# Altium schematic symbol library schematics_library_legacy.schlib: 96 symbols (part 3 of 4)
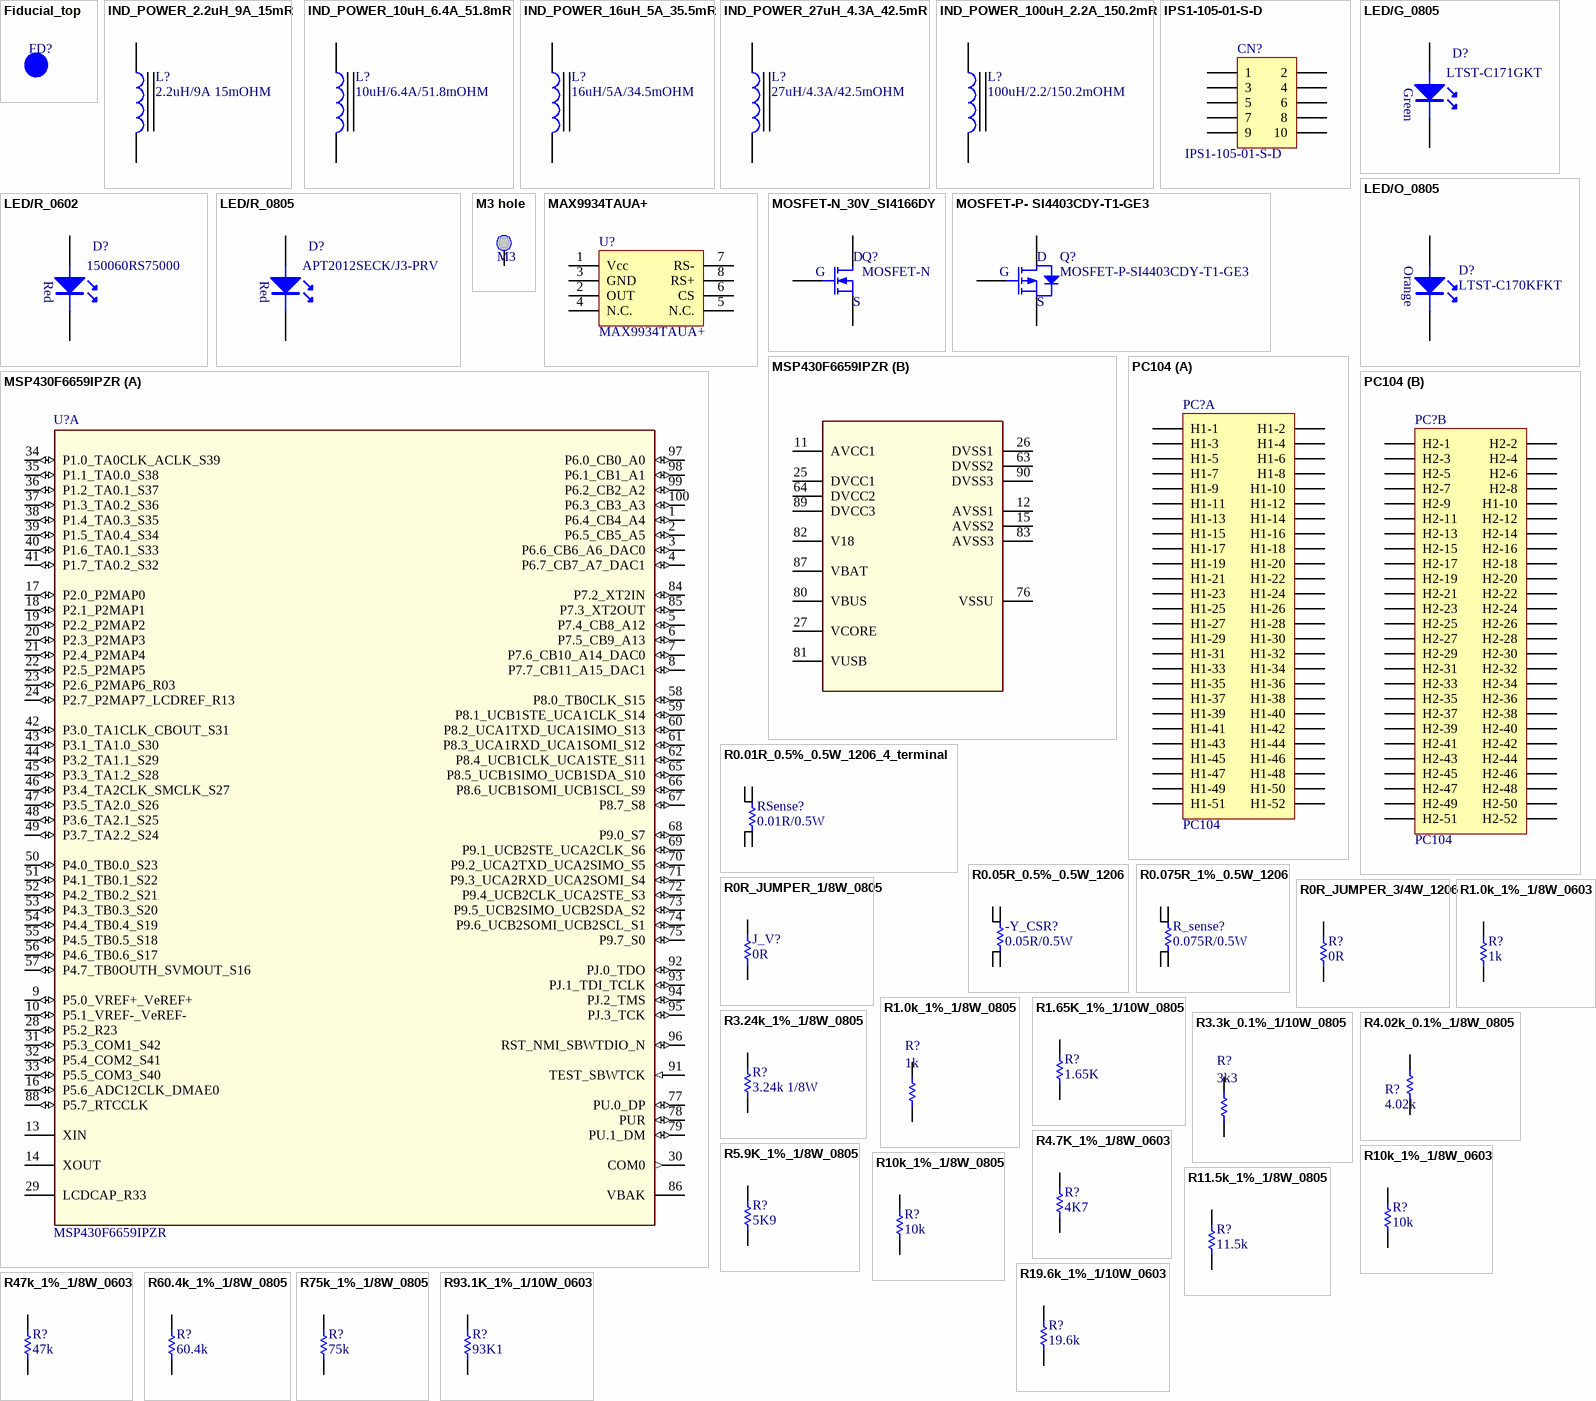
[diagram p4: symbols Fiducial_top to R93.1K_1%_1/10W_0603]

## MSP430F6659IPZR
designator U?
CPUXV2 series Microcontroller IC 16-Bit 20MHz 512KB (512K x 8) FLASH 100-LQFP (14x14); Manufacturer: Texas Instruments; PIN_COUNT: 100; Max Supply Voltage: 3.6V; Min Supply Voltage: 1.8V; Number of I/Os: 74; Interface: SPI,USB,UART,I2C,IrDA,USART,SCI; RAM Size: 66KB; Number of Timers/Counters: 4; Data Bus Width: 16b; Oscillator Type: Internal; Watchdog Timer: Yes; Number of UART Channels: 3; Number of A/D Converters: 16; Peripherals: Brown-out Detect/Reset,POR,PWM,WDT,DMA,LCD; Application_BuildNumber: *; PartNumber: MSP430F6659IPZR; Alternate PartNumber: MSP430F6659IPZ; PackageReference: PZ0100A; MountType: SMT; CompType: IC; RoHS: Y; RefDes: RefDes; Type: DEV; Value: Value; Supplier 1: Mouser; Supplier Part Number 1: 595-MSP430F6659IPZ; Stock 1: 288; Pricing 1: 1=13.59, 10=12.49, 25=11.97, 100=10.55, 250=10.03, 500=9.39 (USD); Mount: Surface Mount; Case/Package: LQFP; Number of Pins: 100; Min Operating Temperature: -40°C; Max Operating Temperature: 85°C; Package Quantity: 90; Frequency: 20MHz; Packaging: Tray; Number of Programmable I/O: 74; Max Frequency: 20MHz; Memory Type: FLASH; Memory Size: 512KB; Core Architecture: CPUXV2; Lead Free: Lead Free; REACH SVHC: No SVHC; ComponentLink1URL: http://www.ti.com/general/docs/lit/getliterature.tsp?genericPartNumber=MSP430F6659&&fileType=pdf&src-supplier=Element14; ComponentLink1Description: http://www.ti.com/general/docs/lit/getliterature.tsp?genericPartNumber=MSP430F6659&&fileType=pdf&src-supplier=Element14; Supplier 2: Digi-Key; Supplier Part Number 2: 296-41521-ND; Stock 2: 457; Pricing 2: 1=13.59, 10=12.487, 25=11.9696, 100=10.5461, 250=10.02852, 500=9.3815, 1000=8.6051, 2500=8.2816, 5000=8.0228 (USD); Manufacturer Part Number: MSP430F6659IPZ
footprint LQFP-100
part A pins: 1 P6.4_CB4_A4 (io), 2 P6.5_CB5_A5 (io), 3 P6.6_CB6_A6_DAC0 (io), 4 P6.7_CB7_A7_DAC1 (io), 5 P7.4_CB8_A12 (io), 6 P7.5_CB9_A13 (io), 7 P7.6_CB10_A14_DAC0 (io), 8 P7.7_CB11_A15_DAC1 (io), 9 P5.0_VREF+_VeREF+ (io), 10 P5.1_VREF-_VeREF- (io), 13 XIN, 14 XOUT, 16 P5.6_ADC12CLK_DMAE0 (io), 17 P2.0_P2MAP0 (io), 18 P2.1_P2MAP1 (io), 19 P2.2_P2MAP2 (io), 20 P2.3_P2MAP3 (io), 21 P2.4_P2MAP4 (io), 22 P2.5_P2MAP5 (io), 23 P2.6_P2MAP6_R03 (io), 24 P2.7_P2MAP7_LCDREF_R13 (io), 28 P5.2_R23 (io), 29 LCDCAP_R33, 30 COM0 (out), 31 P5.3_COM1_S42 (io), 32 P5.4_COM2_S41 (io), 33 P5.5_COM3_S40 (io), 34 P1.0_TA0CLK_ACLK_S39 (io), 35 P1.1_TA0.0_S38 (io), 36 P1.2_TA0.1_S37 (io), 37 P1.3_TA0.2_S36 (io), 38 P1.4_TA0.3_S35 (io), 39 P1.5_TA0.4_S34 (io), 40 P1.6_TA0.1_S33 (io), 41 P1.7_TA0.2_S32 (io), 42 P3.0_TA1CLK_CBOUT_S31 (io), 43 P3.1_TA1.0_S30 (io), 44 P3.2_TA1.1_S29 (io), 45 P3.3_TA1.2_S28 (io), 46 P3.4_TA2CLK_SMCLK_S27 (io), 47 P3.5_TA2.0_S26 (io), 48 P3.6_TA2.1_S25 (io), 49 P3.7_TA2.2_S24 (io), 50 P4.0_TB0.0_S23 (io), 51 P4.1_TB0.1_S22 (io), 52 P4.2_TB0.2_S21 (io), 53 P4.3_TB0.3_S20 (io), 54 P4.4_TB0.4_S19 (io), 55 P4.5_TB0.5_S18 (io), 56 P4.6_TB0.6_S17 (io), 57 P4.7_TB0OUTH_SVMOUT_S16 (io), 58 P8.0_TB0CLK_S15 (io), 59 P8.1_UCB1STE_UCA1CLK_S14 (io), 60 P8.2_UCA1TXD_UCA1SIMO_S13 (io), 61 P8.3_UCA1RXD_UCA1SOMI_S12 (io), 62 P8.4_UCB1CLK_UCA1STE_S11 (io), 65 P8.5_UCB1SIMO_UCB1SDA_S10 (io), 66 P8.6_UCB1SOMI_UCB1SCL_S9 (io), 67 P8.7_S8 (io), 68 P9.0_S7 (io), 69 P9.1_UCB2STE_UCA2CLK_S6 (io), 70 P9.2_UCA2TXD_UCA2SIMO_S5 (io), 71 P9.3_UCA2RXD_UCA2SOMI_S4 (io), 72 P9.4_UCB2CLK_UCA2STE_S3 (io), 73 P9.5_UCB2SIMO_UCB2SDA_S2 (io), 74 P9.6_UCB2SOMI_UCB2SCL_S1 (io), 75 P9.7_S0 (io), 77 PU.0_DP (io), 78 PUR (io), 79 PU.1_DM (io), 84 P7.2_XT2IN (io), 85 P7.3_XT2OUT (io), 86 VBAK, 88 P5.7_RTCCLK (io), 91 TEST_SBWTCK (in), 92 PJ.0_TDO (io), 93 PJ.1_TDI_TCLK (io), 94 PJ.2_TMS (io), 95 PJ.3_TCK (io), 96 RST_NMI_SBWTDIO_N (io), 97 P6.0_CB0_A0 (io), 98 P6.1_CB1_A1 (io), 99 P6.2_CB2_A2 (io), 100 P6.3_CB3_A3 (io)
part B pins: 11 AVCC1 (power), 12 AVSS1 (power), 15 AVSS2 (power), 25 DVCC1 (power), 26 DVSS1 (power), 27 VCORE (power), 63 DVSS2 (power), 64 DVCC2 (power), 76 VSSU (power), 80 VBUS (power), 81 VUSB (power), 82 V18 (power), 83 AVSS3 (power), 87 VBAT (power), 89 DVCC3 (power), 90 DVSS3 (power)

## PC104
designator PC?
Partnumber: SSW-126-01-G-D; Manufacturer: Samtec; Gender: Receptacle; Number of Contacts: 52; Connector Type: Receptacle,Socket; Mating Cycles: 100; Max Current Rating: 5.5A; Contact Resistance: 10mR; Max Voltage Rating (AC): 550V; Pitch: 2.54mm; Row Spacing: 0.1inch; Supplier 1: Mouser; Supplier Part Number 1: 200-SSW12601GD; Stock 1: 86; Pricing 1: 1=6.95, 10=5.8, 100=4.93, 250=4.4, 500=4.05, 1000=3.8 (USD); Mount: Through Hole; Contact Plating: Gold; Contact Material: Bronze; Color: Black; Housing Color: Black; Housing Material: Polymer; Min Operating Temperature: -55°C; Max Operating Temperature: 125°C; Number of Rows: 2; Termination: Solder; Packaging: Bulk; Number of Positions: 52; Orientation: Straight; Length: 66.55mm; Width: 4.95mm; Depth: 4.95mm; Lead Free: Lead Free; REACH SVHC: No SVHC; ComponentLink1URL: http://suddendocs.samtec.com/prints/ssw-1xx-xx-xxx-x-xx-xxx-xx-mkt.pdf?src-supplier=Digi-Key; ComponentLink1Description: http://suddendocs.samtec.com/prints/ssw-1xx-xx-xxx-x-xx-xxx-xx-mkt.pdf?src-supplier=Digi-Key; Supplier 2: Digi-Key; Supplier Part Number 2: SAM1208-26-ND; Stock 2: 0; Pricing 2: 1=6.69, 10=6.415, 25=5.8576, 50=5.5786, 100=5.2996, 250=4.74176, 500=4.46284 (USD); Manufacturer Part Number: SSW-126-01-G-D
footprint PC104_EPS (Connector; Header; 26x4 Position)
part A pins: H1-1, H1-2, H1-3, H1-4, H1-5, H1-6, H1-7, H1-8, H1-9, H1-10, H1-11, H1-12, H1-13, H1-14, H1-15, H1-16, H1-17, H1-18, H1-19, H1-20, H1-21, H1-22, H1-23, H1-24, H1-25, H1-26, H1-27, H1-28, H1-29, H1-30, H1-31, H1-32, H1-33, H1-34, H1-35, H1-36, H1-37, H1-38, H1-39, H1-40, H1-41, H1-42, H1-43, H1-44, H1-45, H1-46, H1-47, H1-48, H1-49, H1-50, H1-51, H1-52
part B pins: H1-10, H1-32 H2-32, H1-52 H2-52, H2-1, H2-2, H2-3, H2-4, H2-5, H2-6, H2-7, H2-8, H2-9, H2-11, H2-12, H2-13, H2-14, H2-15, H2-16, H2-17, H2-18, H2-19, H2-20, H2-21, H2-22, H2-23, H2-24, H2-25, H2-26, H2-27, H2-28, H2-29, H2-30, H2-31, H2-33, H2-34, H2-35, H2-36, H2-37, H2-38, H2-39, H2-40, H2-41, H2-42, H2-43, H2-44, H2-45, H2-46, H2-47, H2-48, H2-49, H2-50, H2-51

## R0.01R_0.5%_0.5W_1206_4_terminal
designator RSense?, comment 0.01R/0.5W
Current Sense Resistors - SMD 0.01ohm .5% 4 Terminal; Partnumber: LVK12R010DER; Manufacturer: Ohmite; Resistance: 10mR; Power Rating: 500mW; Tolerance: 0.5%; Temperature Coefficient: 50ppm/°C; NCM: 8533.21.20; Supplier 1: Mouser; Supplier Part Number 1: 588-LVK12R010DER; Stock 1: 41390; Pricing 1: 1=0.89, 10=0.784, 25=0.721, 50=0.657, 100=0.569, 250=0.48 (USD); Mount: Surface Mount; Case/Package: 1206; Weight: 0.000571oz; Case Code (Imperial): 1206; Case Code (Metric): 3216; Min Operating Temperature: -40°C; Max Operating Temperature: 125°C; Packaging: Tape and Reel; Package Quantity: 1; Composition: Thick Film,Metal Film,Thin Film; Termination: SMD/SMT; Number of Terminations: 4; Max Power Dissipation: 500mW; Features: Moisture Resistant; Length: 3.2mm; Height: 0.5mm; Width: 1.6mm; Depth: 1.6mm; REACH SVHC: Unknown; ComponentLink1URL: http://www.mouser.com/ds/2/303/res_lvk-526397.pdf?src-supplier=Mouser; ComponentLink1Description: http://www.mouser.com/ds/2/303/res_lvk-526397.pdf?src-supplier=Mouser; ComponentLink2URL: http://www.ohmite.com/assets/docs/res_lvk.pdf?r=false&src-supplier=Digi-Key; ComponentLink2Description: http://www.ohmite.com/assets/docs/res_lvk.pdf?r=false&src-supplier=Digi-Key; ComponentLink3URL: http://www.farnell.com/datasheets/2553343.pdf?src-supplier=Element14; ComponentLink3Description: http://www.farnell.com/datasheets/2553343.pdf?src-supplier=Element14; ComponentLink4URL: http://www.farnell.com/datasheets/1928848.pdf?src-supplier=Element14; ComponentLink4Description: http://www.farnell.com/datasheets/1928848.pdf?src-supplier=Element14; ComponentLink5URL: https://www.alliedelec.com/m/d/8bcba2f42146915c5c22f667886779d2.pdf?src-supplier=Allied+Electronics; ComponentLink5Description: https://www.alliedelec.com/m/d/8bcba2f42146915c5c22f667886779d2.pdf?src-supplier=Allied+Electronics; Supplier 2: Digi-Key; Supplier Part Number 2: LVK12R010DERCT-ND; Stock 2: 186044; Pricing 2: 1=0.89, 10=0.784, 25=0.7212, 50=0.6578, 100=0.5693, 250=0.48072, 500=0.4048, 1000=0.34408 (USD); Manufacturer Part Number: LVK12R010DER
footprint 1206 - ohmite
pins: 1, 2, 3, 4

## R0.05R_0.5%_0.5W_1206
designator -Y_CSR?, comment 0.05R/0.5W
Current Sense Resistors - SMD 0.05ohm .5% 4 Terminal; Partnumber: LVK12R050DER; Manufacturer: Ohmite; Resistance: 50mR; Power Rating: 500mW; Tolerance: 0.5%; Temperature Coefficient: 50ppm/°C; NCM: 8533.21.20; Supplier 1: Mouser; Supplier Part Number 1: 588-LVK12R050DER; Stock 1: 13324; Pricing 1: 1=0.85, 10=0.784, 25=0.604, 100=0.531, 250=0.46, 500=0.385 (USD); Mount: Surface Mount; Case/Package: 1206; Case Code (Metric): 3216; Case Code (Imperial): 1206; Min Operating Temperature: -40°C; Max Operating Temperature: 125°C; Packaging: Tape and Reel; Package Quantity: 1; Composition: Thick Film,Metal Film,Thin Film; Number of Terminations: 4; Termination: SMD/SMT; Max Power Dissipation: 500mW; Features: Moisture Resistant; Length: 3.2mm; Height: 0.5mm; Width: 0.063inch; Depth: 1.6mm; REACH SVHC: Unknown; ComponentLink1URL: http://www.ohmite.com/assets/docs/res_lvk.pdf?r=false&src-supplier=Digi-Key; ComponentLink1Description: http://www.ohmite.com/assets/docs/res_lvk.pdf?r=false&src-supplier=Digi-Key; ComponentLink2URL: http://www.farnell.com/datasheets/2553343.pdf?src-supplier=Element14; ComponentLink2Description: http://www.farnell.com/datasheets/2553343.pdf?src-supplier=Element14; ComponentLink3URL: http://www.ohmite.com/catalog/pdf/lvk.pdf?src-supplier=Element14; ComponentLink3Description: http://www.ohmite.com/catalog/pdf/lvk.pdf?src-supplier=Element14; ComponentLink4URL: https://www.alliedelec.com/m/d/8bcba2f42146915c5c22f667886779d2.pdf?src-supplier=Allied+Electronics; ComponentLink4Description: https://www.alliedelec.com/m/d/8bcba2f42146915c5c22f667886779d2.pdf?src-supplier=Allied+Electronics; Supplier 2: Digi-Key; Supplier Part Number 2: LVK12R050DERCT-ND; Stock 2: 3607; Pricing 2: 1=0.89, 10=0.784, 25=0.7212, 50=0.6578, 100=0.5693, 250=0.48072, 500=0.4048, 1000=0.34408 (USD); Manufacturer Part Number: LVK12R050DER
footprint 1206 - ohmite
pins: 1, 2, 3, 4

## R0.075R_1%_0.5W_1206
designator R_sense?, comment 0.075R/0.5W
Current Sense Resistors - SMD 1/2W 0.075 OHMS 1% 4 Terminal; Partnumber: LVK12R075FER; Manufacturer: Ohmite; Resistance: 75mR; Max Power Dissipation: 500mW; Temperature Coefficient: 50ppm/°C; NCM: 8533.21.20; Supplier 1: Mouser; Supplier Part Number 1: 588-LVK12R075FER; Stock 1: 1880; Pricing 1: 1=0.7, 10=0.608, 25=0.488, 100=0.422, 250=0.41, 500=0.409 (USD); Case/Package: 1206; Case Code (Metric): 3216; Case Code (Imperial): 1206; Min Operating Temperature: -40°C; Max Operating Temperature: 125°C; Packaging: Tape and Reel; Composition: Thick Film; Number of Terminations: 4; Tolerance: 1%; Features: Moisture Resistant; Length: 0.126inch; Height: 0.026inch; Width: 0.063inch; ComponentLink1URL: http://www.mouser.com/ds/2/303/res_lvk-526397.pdf?src-supplier=Mouser; ComponentLink1Description: http://www.mouser.com/ds/2/303/res_lvk-526397.pdf?src-supplier=Mouser; ComponentLink2URL: http://www.alliedelec.com/images/products/datasheets/bm/OHMITE/70585002.pdf?src-supplier=Allied+Electronics; ComponentLink2Description: http://www.alliedelec.com/images/products/datasheets/bm/OHMITE/70585002.pdf?src-supplier=Allied+Electronics; ComponentLink3URL: http://www.ohmite.com/cat/res_lvk.pdf?src-supplier=Digi-Key; ComponentLink3Description: http://www.ohmite.com/cat/res_lvk.pdf?src-supplier=Digi-Key; Supplier 2: Digi-Key; Supplier Part Number 2: LVK12R075FERCT-ND; Stock 2: 16; Pricing 2: 1=0.92, 10=0.8 (USD); Manufacturer Part Number: LVK12R075FER
footprint 1206 - ohmite
pins: 1, 2, 3, 4

## R0R_JUMPER_1/8W_0805
designator J_V?, comment 0R
RES 0R OHM 1/8W JUMPER 0805; Partnumber: CRCW08050000Z0EA; Manufacturer: Vishay; Resistance: 0mR; Power Rating: 125mW; Voltage Rating: 150V; Tolerance: 1%; Temperature Coefficient: 100ppm/°C; Fitted: No (jumper resistor); Supplier 1: Mouser; Supplier Part Number 1: 71-CRCW0805-0-E3; Stock 1: 903478; Pricing 1: 1=0.1, 10=0.024, 100=0.01, 1000=0.007, 5000=0.004, 10000=0.004 (USD); Case/Package: 0805; Weight: 0.000194oz; Contact Plating: Tin,Lead; Case Code (Imperial): 0805; Case Code (Metric): 2012; Min Operating Temperature: -55°C; Max Operating Temperature: 155°C; Composition: Thick Film; Termination: SMD/SMT; Packaging: Tape and Reel; Package Quantity: 1; Number of Terminations: 2; Military Standard: Not; Max Power Dissipation: 125mW; Voltage Rating (DC): 150V; Features: Automotive AEC-Q200; Length: 2mm; Height: 0.45mm; Width: 1.25mm; Depth: 1.25mm; Radiation Hardening: No; Lead Free: Lead Free; REACH SVHC: Unknown; ComponentLink1URL: http://www.vishay.com/docs/20035/dcrcwe3.pdf?src-supplier=Avnet+Europe; ComponentLink1Description: http://www.vishay.com/docs/20035/dcrcwe3.pdf?src-supplier=Avnet+Europe; ComponentLink2URL: http://www.vishay.com/docs/20035/dcrcwe3.pdf?src-supplier=Distrelec; ComponentLink2Description: http://www.vishay.com/docs/20035/dcrcwe3.pdf?src-supplier=Distrelec; ComponentLink3URL: http://www.vishay.com/docs/20035/dcrcwe3.pdf?src-supplier=Mouser; ComponentLink3Description: http://www.vishay.com/docs/20035/dcrcwe3.pdf?src-supplier=Mouser; ComponentLink4URL: http://uk.rs-online.com/webdocs/0d98/0900766b80d98b26.pdf?src-supplier=RSComponents; ComponentLink4Description: http://uk.rs-online.com/webdocs/0d98/0900766b80d98b26.pdf?src-supplier=RSComponents; ComponentLink5URL: http://www.vishay.com/docs/20035/dcrcwe3.pdf?src-supplier=Future+Electronics; ComponentLink5Description: http://www.vishay.com/docs/20035/dcrcwe3.pdf?src-supplier=Future+Electronics; ComponentLink6URL: http://www.vishay.com/docs/20035/dcrcwe3.pdf?src-supplier=Allied+Electronics; ComponentLink6Description: http://www.vishay.com/docs/20035/dcrcwe3.pdf?src-supplier=Allied+Electronics; ComponentLink7URL: http://www.vishay.com/docs/20035/dcrcwe3.pdf?src-supplier=Digi-Key; ComponentLink7Description: http://www.vishay.com/docs/20035/dcrcwe3.pdf?src-supplier=Digi-Key; ComponentLink8URL: http://www.farnell.com/datasheets/2310790.pdf?src-supplier=Element14; ComponentLink8Description: http://www.farnell.com/datasheets/2310790.pdf?src-supplier=Element14; Supplier 2: Digi-Key; Supplier Part Number 2: 541-0.0ADKR-ND; Stock 2: 399530; Pricing 2: 1=0.1, 10=0.04, 25=0.0288, 50=0.022, 100=0.0162, 250=0.01236, 500=0.0099, 1000=0.00729 (USD); Manufacturer Part Number: CRCW08050000Z0EA
footprint R0805
pins: 1, 2

## R0R_JUMPER_3/4W_1206
designator R?, comment 0R
RES 0.0 OHM 3/4W JUMP 1206; Partnumber: HCJ1206ZT0R00; Manufacturer: Stackpole Electronics; Resistance: 0mR; Fitted: No (jumper resistor); Supplier 1: Digi-Key; Supplier Part Number 1: HCJ1206ZT0R00CT-ND; Stock 1: 1958428; Pricing 1: 1=0.5, 10=0.358, 25=0.2788, 50=0.236, 100=0.1859, 250=0.15732, 500=0.1287, 1000=0.1001 (USD); Mount: Surface Mount; Case/Package: 1206; Case Code (Metric): 3216; Case Code (Imperial): 1206; Min Operating Temperature: -55°C; Max Operating Temperature: 155°C; Package Quantity: 5000; Packaging: Tape and Reel; Number of Terminations: 2; Termination: Wraparound; Features: Automotive AEC-Q200; Length: 0.122inch; Height: 0.026inch; Width: 0.061inch; Radiation Hardening: No; ComponentLink1URL: http://www.seielect.com/Catalog/SEI-HCJ.pdf?src-supplier=Avnet; ComponentLink1Description: http://www.seielect.com/Catalog/SEI-HCJ.pdf?src-supplier=Avnet; ComponentLink2URL: https://www.seielect.com/Catalog/SEI-HCJ.pdf?src-supplier=Avnet+Asia; ComponentLink2Description: https://www.seielect.com/Catalog/SEI-HCJ.pdf?src-supplier=Avnet+Asia; ComponentLink3URL: https://www.seielect.com/catalog/SEI-HCJ.pdf?src-supplier=Digi-Key; ComponentLink3Description: https://www.seielect.com/catalog/SEI-HCJ.pdf?src-supplier=Digi-Key; ComponentLink4URL: https://www.seielect.com/catalog/SEI-Packaging.pdf?src-supplier=Digi-Key; ComponentLink4Description: https://www.seielect.com/catalog/SEI-Packaging.pdf?src-supplier=Digi-Key; Manufacturer Part Number: HCJ1206ZT0R00
footprint 1206 - ohmite
pins: 1, 2

## R1.0k_1%_1/8W_0603
designator R?, comment 1k
RES 1.0K OHM 1/8W 1% 0603; Partnumber: MCT06030C1001FP500; Manufacturer: Vishay; Resistance: 1kR; Temperature Coefficient: 50ppm/°C; Power Rating: 100mW; Voltage Rating: 75V; Max Power Dissipation: 125mW; NCM: 8533.21.20; Supplier 1: Mouser; Supplier Part Number 1: 594-MCT06030C1001FP5; Stock 1: 142157; Pricing 1: 1=0.1, 1000=0.025, 2000=0.023, 5000=0.019, 10000=0.018, 20000=0.017 (USD); Mount: Surface Mount; Case/Package: 0603; Weight: 7.1E-05oz; Contact Plating: Tin; Case Code (Metric): 1608; Case Code (Imperial): 0603; Min Operating Temperature: -55°C; Max Operating Temperature: 125°C; Tolerance: 1%; Composition: Thin Film; Package Quantity: 1; Packaging: Tape and Reel; Number of Terminations: 2; Termination: SMD/SMT; Military Standard: Not; Voltage Rating (DC): 75V; Length: 1.55mm; Height: 0.022inch; Width: 0.033inch; Depth: 0.85mm; Radiation Hardening: No; REACH SVHC: Unknown; Lead Free: Lead Free; ComponentLink1URL: http://www.vishay.com/docs/28705/mcx0x0xpro.pdf?src-supplier=Digi-Key; ComponentLink1Description: http://www.vishay.com/docs/28705/mcx0x0xpro.pdf?src-supplier=Digi-Key; ComponentLink2URL: http://www.vishay.com/docs/28705/mc_pro.pdf?src-supplier=Avnet+Europe; ComponentLink2Description: http://www.vishay.com/docs/28705/mc_pro.pdf?src-supplier=Avnet+Europe; ComponentLink3URL: http://www.vishay.com/docs/28705/mc_pro.pdf?src-supplier=Avnet; ComponentLink3Description: http://www.vishay.com/docs/28705/mc_pro.pdf?src-supplier=Avnet; ComponentLink4URL: http://www.vishay.com/docs/28705/mc_pro.pdf?src-supplier=Future+Electronics; ComponentLink4Description: http://www.vishay.com/docs/28705/mc_pro.pdf?src-supplier=Future+Electronics; Supplier 2: Digi-Key; Supplier Part Number 2: MCT0603-1.00K-CFCT-ND; Stock 2: 268907; Pricing 2: 1=0.17, 10=0.145, 100=0.0568, 1000=0.02376, 2500=0.02178 (USD); Manufacturer Part Number: MCT06030C1001FP500
footprint R0603
pins: 1, 2

## R1.0k_1%_1/8W_0805
designator R?, comment 1k
RES SMD 1K OHM 1% 1/8W 0805; Manufacturer: Panasonic; Manufacturer Part Number: ERJ-6ENF1001V; Resistance: 1kR; Temperature Coefficient: 100ppm/°C; Power Rating: 125mW; Voltage Rating (DC): 150V; Supplier 1: Mouser; Supplier Part Number 1: 667-ERJ-6ENF1001V; Stock 1: 604781; Pricing 1: 1=0.13, 10=0.072, 100=0.028, 1000=0.019, 5000=0.018, 10000=0.018 (USD); Mount: Surface Mount; Case/Package: 0805; Number of Pins: 2; Min Operating Temperature: -55°C; Max Operating Temperature: 155°C; Tolerance: 1%; Packaging: Cut Tape; Number of Terminations: 2; Working Voltage: 150V; Length: 2mm; Height: 0.6mm; Depth: 1.25mm; Width: 1.25mm; REACH SVHC: No SVHC; Lead Free: Lead Free; Supplier 2: Digi-Key; Supplier Part Number 2: P1.00KCCT-ND; Stock 2: 447460; Pricing 2: 1=0.1, 10=0.072, 100=0.0275, 1000=0.0121, 2500=0.01045 (USD)
footprint R0805
pins: 1, 2

## R1.65K_1%_1/10W_0805
designator R?, comment 1.65K
RES 1.65K OHM 1/10W 0.1% 0805; Partnumber: PCF0805R-1K65BT1; Manufacturer: TT Welwyn; Resistance: 1.65kR; Power Rating: 100mW; Voltage Rating: 100V; Temperature Coefficient: 25ppm/°C; NCM: 8533.21.20; Supplier 1: Mouser; Supplier Part Number 1: 756-PCF0805R-1K65BT1; Stock 1: 0; Case/Package: 0805; Case Code (Metric): 2012; Case Code (Imperial): 0805; Min Operating Temperature: -55°C; Max Operating Temperature: 125°C; Tolerance: 0.1%; Packaging: Tape and Reel; Package Quantity: 1000; Composition: Metal Film; Number of Terminations: 2; Military Standard: Not; Max Power Dissipation: 100mW; Length: 2mm; Height: 0.026inch; Width: 0.049inch; Depth: 1.25mm; ComponentLink1URL: http://www.ttelectronicsresistors.com/datasheets/pcf.pdf?src-supplier=Digi-Key; ComponentLink1Description: http://www.ttelectronicsresistors.com/datasheets/pcf.pdf?src-supplier=Digi-Key; ComponentLink2URL: http://www.mouser.com/ds/2/414/PCF-437472.pdf?src-supplier=Mouser; ComponentLink2Description: http://www.mouser.com/ds/2/414/PCF-437472.pdf?src-supplier=Mouser; Supplier 2: Digi-Key; Supplier Part Number 2: 985-1304-1-ND; Stock 2: 42; Pricing 2: 1=0.61, 10=0.471, 25=0.358 (USD); Manufacturer Part Number: PCF0805R-1K65BT1
footprint R0805
pins: 1, 2

## R3.3k_0.1%_1/10W_0805
designator R?, comment 3k3
RES SMD 3.3K OHM 0.1% 1/10W 0805; Manufacturer: TE Connectivity Neohm; Manufacturer Part Number: CPF0805B3K3E1; Resistance: 3.3kR; Temperature Coefficient: 25ppm/°C; Voltage Rating: 100V; Power Rating: 100mW; Voltage Rating (DC): 200V; Number of Resistors: 1; Supplier 1: Mouser; Supplier Part Number 1: 279-CPF0805B3K3E1; Stock 1: 1306; Pricing 1: 1=0.67, 10=0.485, 100=0.252, 1000=0.135, 2000=0.117, 10000=0.114 (USD); Mount: Surface Mount; Case/Package: 0805; Weight: 0.000194oz; Case Code (Metric): 2012; Case Code (Imperial): 0805; Min Operating Temperature: -55°C; Max Operating Temperature: 155°C; Tolerance: 0.1%; Packaging: Tape and Reel; Composition: Thin Film; Package Quantity: 1000; Number of Terminations: 2; Termination: Solder; Length: 2mm; Height: 0.55mm; Width: 1.25mm; REACH SVHC: No SVHC; ELV: Compliant; ComponentLink1URL: http://www.farnell.com/datasheets/1786775.pdf?src-supplier=Element14; ComponentLink1Description: http://www.farnell.com/datasheets/1786775.pdf?src-supplier=Element14; Supplier 2: Digi-Key; Supplier Part Number 2: A102339CT-ND; Stock 2: 1176; Pricing 2: 1=0.65, 10=0.463, 100=0.2408 (USD)
footprint R0805
pins: 1, 2

## R3.24k_1%_1/8W_0805
designator R?, comment 3.24k 1/8W
RES 3.24k OHM 1/8W 1% 0805 SMD; Partnumber: CRCW08053K24FKEA; Manufacturer: Vishay; Resistance: 3.24kR; Temperature Coefficient: 100ppm/°C; Max Power Dissipation: 125mW; Voltage Rating: 150V; NCM: 8533.21.20; Supplier 1: Mouser; Supplier Part Number 1: 71-CRCW0805-3.24K-E3; Stock 1: 17870; Pricing 1: 1=0.1, 10=0.062, 100=0.025, 1000=0.01, 5000=0.007, 10000=0.006 (USD); Case/Package: 0805; Number of Pins: 2; Weight: 0.000194oz; Case Code (Imperial): 0805; Case Code (Metric): 2012; Contact Plating: Tin; Min Operating Temperature: -55°C; Max Operating Temperature: 155°C; Tolerance: 1%; Package Quantity: 10; Packaging: Tape and Reel; Composition: Thick Film; Number of Terminations: 2; Features: Automotive AEC-Q200; Power Rating: 125mW; Military Standard: Not; Termination: Solder; Voltage Rating (DC): 150V; Length: 2mm; Height: 0.02inch; Width: 1.25mm; Depth: 1.25mm; Radiation Hardening: No; Lead Free: Lead Free; REACH SVHC: Unknown; ComponentLink1URL: http://www.vishay.com/docs/20035/dcrcwe3.pdf?src-supplier=Avnet; ComponentLink1Description: http://www.vishay.com/docs/20035/dcrcwe3.pdf?src-supplier=Avnet; ComponentLink2URL: http://www.vishay.com/docs/20035/dcrcwe3.pdf?src-supplier=Digi-Key; ComponentLink2Description: http://www.vishay.com/docs/20035/dcrcwe3.pdf?src-supplier=Digi-Key; ComponentLink3URL: https://www.alliedelec.com/m/d/0c934d6939ccefa68dbe0b96d821c8cf.pdf?src-supplier=Allied+Electronics; ComponentLink3Description: https://www.alliedelec.com/m/d/0c934d6939ccefa68dbe0b96d821c8cf.pdf?src-supplier=Allied+Electronics; ComponentLink4URL: http://www.farnell.com/datasheets/2111203.pdf?src-supplier=Element14; ComponentLink4Description: http://www.farnell.com/datasheets/2111203.pdf?src-supplier=Element14; ComponentLink5URL: http://www.farnell.com/datasheets/2049244.pdf?src-supplier=Element14; ComponentLink5Description: http://www.farnell.com/datasheets/2049244.pdf?src-supplier=Element14; Supplier 2: Digi-Key; Supplier Part Number 2: 541-3.24KCCT-ND; Stock 2: 7978; Pricing 2: 1=0.1, 10=0.062, 100=0.0254, 1000=0.01142, 2500=0.00991 (USD); Manufacturer Part Number: CRCW08053K24FKEA
footprint R0805
pins: 1, 2

## R4.02k_0.1%_1/8W_0805
designator R?, comment 4.02k
RES 4.02k OHM 1/8W 0.1% 0805; Partnumber: ERA-6AEB4021V; Manufacturer: Panasonic; Resistance: 4.02kR; Temperature Coefficient: 25ppm/°C; Power Rating: 125mW; Voltage Rating: 100V; NCM: 8533.21.20; Supplier 1: Mouser; Supplier Part Number 1: 667-ERA-6AEB4021V; Stock 1: 541; Pricing 1: 1=0.36, 10=0.302, 100=0.118, 1000=0.045, 5000=0.037, 10000=0.034 (USD); Mount: Surface Mount; Case/Package: 0805; Number of Pins: 2; Contact Plating: Tin; Case Code (Metric): 2012; Case Code (Imperial): 0805; Min Operating Temperature: -55°C; Max Operating Temperature: 155°C; Tolerance: 0.1%; Composition: Metal Film,Thin Film; Packaging: Tape and Reel; Package Quantity: 5000; Number of Terminations: 2; Termination: Solder; Max Power Dissipation: 125mW; Voltage Rating (DC): 100V; Features: Automotive AEC-Q200; Length: 2mm; Height: 0.5mm; Width: 1.25mm; Depth: 1.25mm; Radiation Hardening: No; REACH SVHC: No SVHC; Lead Free: Lead Free; ComponentLink1URL: http://www.farnell.com/datasheets/485442.pdf?src-supplier=Farnell; ComponentLink1Description: http://www.farnell.com/datasheets/485442.pdf?src-supplier=Farnell; ComponentLink2URL: http://www.farnell.com/datasheets/485442.pdf?src-supplier=Element14; ComponentLink2Description: http://www.farnell.com/datasheets/485442.pdf?src-supplier=Element14; ComponentLink3URL: http://www.mouser.com/ds/2/315/AOA0000C237-1100991.pdf?src-supplier=Mouser; ComponentLink3Description: http://www.mouser.com/ds/2/315/AOA0000C237-1100991.pdf?src-supplier=Mouser; ComponentLink4URL: http://industrial.panasonic.com/www-data/pdf/AOA0000/AOA0000CE26.pdf?src-supplier=Avnet; ComponentLink4Description: http://industrial.panasonic.com/www-data/pdf/AOA0000/AOA0000CE26.pdf?src-supplier=Avnet; ComponentLink5URL: http://uk.rs-online.com/webdocs/0eb1/0900766b80eb1d8c.pdf?src-supplier=RSComponents; ComponentLink5Description: http://uk.rs-online.com/webdocs/0eb1/0900766b80eb1d8c.pdf?src-supplier=RSComponents; ComponentLink6URL: https://produktinfo.conrad.com/datenblaetter/450000-474999/458752-da-01-en-WIDERSTAND_0805_ERA.pdf?src-supplier=Conrad; ComponentLink6Description: https://produktinfo.conrad.com/datenblaetter/450000-474999/458752-da-01-en-WIDERSTAND_0805_ERA.pdf?src-supplier=Conrad; Supplier 2: Digi-Key; Supplier Part Number 2: P4.02KDACT-ND; Stock 2: 9287; Pricing 2: 1=0.34, 10=0.288, 100=0.1126, 1000=0.04712, 2500=0.0432 (USD); Manufacturer Part Number: ERA-6AEB4021V
footprint R0805
pins: 1, 2

## R4.7K_1%_1/8W_0603
designator R?, comment 4K7
RES 4K7 OHM 1/8W 1% 0603; Manufacturer: Vishay Beyschlag; Manufacturer Part Number: MCT06030C4701FP500; Resistance: 4.7kR; Temperature Coefficient: 50ppm/°C; Power Rating: 125mW; Voltage Rating: 75V; ComponentLink1URL: http://www.vishay.com/docs/28705/mc_pro.pdf?src-supplier=Avnet; ComponentLink1Description: http://www.vishay.com/docs/28705/mc_pro.pdf?src-supplier=Avnet; ComponentLink2URL: http://www.vishay.com/docs/28705/mc_pro.pdf?src-supplier=Future+Electronics; ComponentLink2Description: http://www.vishay.com/docs/28705/mc_pro.pdf?src-supplier=Future+Electronics; ComponentLink3URL: http://www.vishay.com/docs/28705/mcx0x0xpro.pdf?src-supplier=Digi-Key; ComponentLink3Description: http://www.vishay.com/docs/28705/mcx0x0xpro.pdf?src-supplier=Digi-Key; Supplier 1: Mouser; Supplier Part Number 1: 594-MCT06030C4701FP5; Stock 1: 126399; Pricing 1: 1=0.16, 50=0.076, 100=0.06, 500=0.034, 1000=0.023, 5000=0.019 (USD); Mount: Surface Mount; Case/Package: 0603; Contact Plating: Tin; Case Code (Metric): 1608; Case Code (Imperial): 0603; Min Operating Temperature: -55°C; Max Operating Temperature: 125°C; Tolerance: 1%; Composition: Thin Film; Packaging: Tape and Reel; Package Quantity: 1; Number of Terminations: 2; Military Standard: Not; Max Power Dissipation: 125mW; Voltage Rating (DC): 75V; Length: 1.55mm; Height: 0.022inch; Width: 0.033inch; Depth: 0.85mm; Radiation Hardening: No; REACH SVHC: No SVHC; Lead Free: Lead Free; Supplier 2: Digi-Key; Supplier Part Number 2: MCT0603-4.70K-CFCT-ND; Stock 2: 38031; Pricing 2: 1=0.17, 10=0.145, 100=0.0568, 1000=0.02376, 2500=0.02178 (USD)
footprint R0603
pins: 1, 2

## R5.9K_1%_1/8W_0805
designator R?, comment 5K9
RES 5K9 OHM 1/8W 1% 0805; Partnumber: 71-CRCW0805-5.9K-E3; Manufacturer: Vishay; Manufacturer Part Number: CRCW08055K90FKEA; Resistance: 5.9kR; Power Rating: 125mW; Voltage Rating: 150V; Temperature Coefficient: 100ppm/°C; NCM: 8533.21.20; Supplier 1: Mouser; Supplier Part Number 1: 71-CRCW0805-5.9K-E3; Stock 1: 29325; Pricing 1: 1=0.1, 10=0.062, 100=0.025, 1000=0.01, 5000=0.007, 10000=0.006 (USD); Case/Package: 0805; Number of Pins: 2; Weight: 0.000194oz; Case Code (Imperial): 0805; Case Code (Metric): 2012; Contact Plating: Tin; Min Operating Temperature: -55°C; Max Operating Temperature: 155°C; Tolerance: 1%; Packaging: Tape and Reel; Package Quantity: 10; Termination: SMD/SMT; Composition: Thick Film; Number of Terminations: 2; Military Standard: Not; Max Power Dissipation: 125mW; Working Voltage: 150V; Features: Automotive AEC-Q200; Length: 2mm; Height: 0.45mm; Width: 1.25mm; Depth: 1.25mm; Radiation Hardening: No; REACH SVHC: Unknown; ComponentLink1URL: http://www.mouser.com/ds/2/427/dcrcwe3-109170.pdf?src-supplier=Mouser; ComponentLink1Description: http://www.mouser.com/ds/2/427/dcrcwe3-109170.pdf?src-supplier=Mouser; ComponentLink2URL: http://uk.rs-online.com/webdocs/0d98/0900766b80d98b26.pdf?src-supplier=RSComponents; ComponentLink2Description: http://uk.rs-online.com/webdocs/0d98/0900766b80d98b26.pdf?src-supplier=RSComponents; ComponentLink3URL: http://www.farnell.com/datasheets/2310790.pdf?src-supplier=Element14; ComponentLink3Description: http://www.farnell.com/datasheets/2310790.pdf?src-supplier=Element14; ComponentLink4URL: http://www.vishay.com/docs/20035/dcrcwe3.pdf?src-supplier=Digi-Key; ComponentLink4Description: http://www.vishay.com/docs/20035/dcrcwe3.pdf?src-supplier=Digi-Key; ComponentLink5URL: http://www.vishay.com/docs/20035/dcrcwe3.pdf?src-supplier=Avnet; ComponentLink5Description: http://www.vishay.com/docs/20035/dcrcwe3.pdf?src-supplier=Avnet; ComponentLink6URL: http://www.vishay.com/docs/20035/dcrcwe3.pdf?src-supplier=Avnet+Europe; ComponentLink6Description: http://www.vishay.com/docs/20035/dcrcwe3.pdf?src-supplier=Avnet+Europe; ComponentLink7URL: http://www.farnell.com/datasheets/1697337.pdf?src-supplier=Element14; ComponentLink7Description: http://www.farnell.com/datasheets/1697337.pdf?src-supplier=Element14; Supplier 2: Digi-Key; Supplier Part Number 2: 541-5.90KCCT-ND; Stock 2: 19246; Pricing 2: 1=0.1, 10=0.062, 100=0.0254, 1000=0.01142, 2500=0.00991 (USD)
footprint R0805
pins: 1, 2

## R10k_1%_1/8W_0603
designator R?, comment 10k
RES 10K OHM 1/8W 1%  0603; Partnumber: MCT0603MC1002FP500; Manufacturer: Vishay Beyschlag; Resistance: 10kR; Power Rating: 125mW; Voltage Rating: 75V; NCM: 8533.21.20; Supplier 1: Mouser; Supplier Part Number 1: 594-MCT0603MC1002FP5; Stock 1: 17645; Pricing 1: 1=0.35, 10=0.258, 100=0.113, 500=0.102, 1000=0.051, 2500=0.046 (USD); Case/Package: 0603; Weight: 7.1E-05oz; Case Code (Imperial): 0603; Case Code (Metric): 1608; Min Operating Temperature: -55°C; Max Operating Temperature: 155°C; Packaging: Tape and Reel; Tolerance: 1%; Package Quantity: 5000; Termination: SMD/SMT; Composition: Thin Film; Length: 1.6mm; Height: 0.45mm; Width: 0.8mm; ComponentLink1URL: http://www.mouser.com/ds/2/427/mcat_pro-223602.pdf?src-supplier=Mouser; ComponentLink1Description: http://www.mouser.com/ds/2/427/mcat_pro-223602.pdf?src-supplier=Mouser; ComponentLink2URL: http://www.vishay.com/docs/28760/mcat_pro.pdf?src-supplier=Digi-Key; ComponentLink2Description: http://www.vishay.com/docs/28760/mcat_pro.pdf?src-supplier=Digi-Key; Supplier 2: Digi-Key; Supplier Part Number 2: MCT0603-10.0K-MFCT-ND; Stock 2: 63961; Pricing 2: 1=0.35, 10=0.298, 100=0.1164, 1000=0.04871, 2500=0.04465 (USD); Manufacturer Part Number: MCT0603MC1002FP500
footprint R0603
pins: 1, 2

## R10k_1%_1/8W_0805
designator R?, comment 10k
RES 10K OHM 1/8W 1%  0805; Partnumber: CRCW080510K0FKEA; Manufacturer: Vishay; Resistance: 10kR; Temperature Coefficient: 100ppm/°C; Power Rating: 125mW; Voltage Rating: 150V; NCM: 8533.21.20; Supplier 1: Mouser; Supplier Part Number 1: 71-CRCW0805-10K-E3; Stock 1: 1328419; Pricing 1: 1=0.1, 10=0.062, 100=0.025, 1000=0.01, 5000=0.007, 10000=0.006 (USD); Case/Package: 0805; Weight: 0.000194oz; Contact Plating: Tin; Case Code (Imperial): 0805; Case Code (Metric): 2012; Min Operating Temperature: -55°C; Max Operating Temperature: 155°C; Tolerance: 1%; Composition: Thick Film; Packaging: Tape and Reel; Package Quantity: 5000; Military Standard: Not; Termination: SMD/SMT; Voltage Rating (DC): 150V; Length: 2mm; Height: 0.45mm; Width: 1.25mm; Depth: 1.25mm; Radiation Hardening: No; Lead Free: Lead Free; REACH SVHC: Unknown; ComponentLink1URL: http://www.mouser.com/ds/2/427/dcrcwe3-109170.pdf?src-supplier=Mouser; ComponentLink1Description: http://www.mouser.com/ds/2/427/dcrcwe3-109170.pdf?src-supplier=Mouser; ComponentLink2URL: http://uk.rs-online.com/webdocs/0d98/0900766b80d98b26.pdf?src-supplier=RSComponents; ComponentLink2Description: http://uk.rs-online.com/webdocs/0d98/0900766b80d98b26.pdf?src-supplier=RSComponents; ComponentLink3URL: http://www.alliedelec.com/m/d/0c934d6939ccefa68dbe0b96d821c8cf.pdf?src-supplier=Allied+Electronics; ComponentLink3Description: http://www.alliedelec.com/m/d/0c934d6939ccefa68dbe0b96d821c8cf.pdf?src-supplier=Allied+Electronics; ComponentLink4URL: http://www.vishay.com/docs/20035/dcrcwe3.pdf?src-supplier=Avnet+Asia; ComponentLink4Description: http://www.vishay.com/docs/20035/dcrcwe3.pdf?src-supplier=Avnet+Asia; ComponentLink5URL: http://www.vishay.com/docs/20035/dcrcwe3.pdf?src-supplier=Avnet+Europe; ComponentLink5Description: http://www.vishay.com/docs/20035/dcrcwe3.pdf?src-supplier=Avnet+Europe; ComponentLink6URL: http://www.farnell.com/datasheets/2310790.pdf?src-supplier=Element14; ComponentLink6Description: http://www.farnell.com/datasheets/2310790.pdf?src-supplier=Element14; ComponentLink7URL: http://www.vishay.com/docs/20035/dcrcwe3.pdf?src-supplier=Avnet; ComponentLink7Description: http://www.vishay.com/docs/20035/dcrcwe3.pdf?src-supplier=Avnet; ComponentLink8URL: http://www.vishay.com/docs/20035/dcrcwe3.pdf?src-supplier=Future+Electronics; ComponentLink8Description: http://www.vishay.com/docs/20035/dcrcwe3.pdf?src-supplier=Future+Electronics; Supplier 2: Digi-Key; Supplier Part Number 2: 541-10.0KCDKR-ND; Stock 2: 975000; Pricing 2: 1=0.1, 10=0.062, 100=0.0254, 1000=0.01142, 2500=0.00991 (USD); Manufacturer Part Number: CRCW080510K0FKEA
footprint R0805
pins: 1, 2

## R11.5k_1%_1/8W_0805
designator R?, comment 11.5k
RES 11.5k OHM 1/8W 1% 0805; Partnumber: AC0805FR-0711K5L; Manufacturer: Yageo; Resistance: 11.5kR; NCM: 8533.21.20; Supplier 1: Mouser; Supplier Part Number 1: 603-AC0805FR-0711K5L; Stock 1: 26753; Pricing 1: 1=0.16, 10=0.037, 100=0.013, 1000=0.01, 5000=0.006, 10000=0.006 (USD); Case/Package: 0805; Tolerance: 1%; Manufacturer Part Number: AC0805FR-0711K5L
footprint R0805
pins: 1, 2

## R19.6k_1%_1/10W_0603
designator R?, comment 19.6k
RES 19.6k OHM 1/10W 1% 0603; Partnumber: ERJ-3EKF1962V; Manufacturer: Panasonic; Resistance: 19.6kR; Power Rating: 100mW; Voltage Rating: 75V; Temperature Coefficient: 100ppm/°C; Voltage Rating (DC): 50V; NCM: 8533.21.20; Supplier 1: Mouser; Supplier Part Number 1: 667-ERJ-3EKF1962V; Stock 1: 90673; Pricing 1: 1=0.1, 10=0.057, 100=0.023, 1000=0.009, 5000=0.006, 10000=0.005 (USD); Mount: Surface Mount; Case/Package: Molded; Case Code (Metric): 1608; Case Code (Imperial): 0603; Contact Plating: Tin; Min Operating Temperature: -55°C; Max Operating Temperature: 155°C; Tolerance: 1%; Packaging: Cut Tape; Composition: Thick Film; Military Standard: Not; Length: 1.6mm; Depth: 0.8mm; Width: 800um; REACH SVHC: No SVHC; Lead Free: Lead Free; ComponentLink1URL: http://www.farnell.com/datasheets/1911175.pdf?src-supplier=Farnell; ComponentLink1Description: http://www.farnell.com/datasheets/1911175.pdf?src-supplier=Farnell; Supplier 2: Digi-Key; Supplier Part Number 2: P19.6KHCT-ND; Stock 2: 62362; Pricing 2: 1=0.1, 10=0.057, 100=0.0234, 1000=0.01049, 2500=0.00911 (USD); Manufacturer Part Number: ERJ-3EKF1962V
footprint R0603
pins: 1, 2

## R47k_1%_1/8W_0603
designator R?, comment 47k
RES 47K OHM 1/8W 0.5% 0603; Partnumber: MCT0603MD4702DP500; Manufacturer: Vishay; Power Rating: 125mW; Voltage Rating: 75V; Resistance: 47kR; Max Power Dissipation: 150mW; Temperature Coefficient: 25ppm/°C; NCM: 8533.21.20; Supplier 1: Mouser; Supplier Part Number 1: 594-MCT0603MD4702DP5; Stock 1: 1149; Pricing 1: 1=0.39, 10=0.224, 100=0.12, 500=0.096, 1000=0.072, 2500=0.062 (USD); Case/Package: 0603; Number of Pins: 2; Weight: 7.1E-05oz; Case Code (Imperial): 0603; Case Code (Metric): 1608; Min Operating Temperature: -55°C; Max Operating Temperature: 175°C; Tolerance: 0.5%; Packaging: Tape and Reel; Package Quantity: 1; Composition: Thin Film; Termination: SMD/SMT; Number of Terminations: 2; Voltage Rating (DC): 75V; Features: Automotive AEC-Q200,Anti-Sulfur; Length: 0.061inch; Height: 0.022inch; Width: 0.8mm; REACH SVHC: No SVHC; ComponentLink1URL: http://www.farnell.com/datasheets/360042.pdf?src-supplier=Farnell; ComponentLink1Description: http://www.farnell.com/datasheets/360042.pdf?src-supplier=Farnell; ComponentLink2URL: http://www.vishay.com/docs/28760/mcat_pro.pdf?src-supplier=Digi-Key; ComponentLink2Description: http://www.vishay.com/docs/28760/mcat_pro.pdf?src-supplier=Digi-Key; Supplier 2: Digi-Key; Supplier Part Number 2: MCT0603-47K-MDCT-ND; Stock 2: 4275; Pricing 2: 1=0.41, 10=0.294, 100=0.1176, 1000=0.05797, 2500=0.05371 (USD); Manufacturer Part Number: MCT0603MD4702DP500
footprint R0603
pins: 1, 2

## R60.4k_1%_1/8W_0805
designator R?, comment 60.4k
RES 60.4k OHM 1/8W 1% 0805; Partnumber: ERJ-6ENF6042V; Manufacturer: Panasonic; Voltage Rating: 150V; Resistance: 60.4kR; Power Rating: 125mW; Temperature Coefficient: 100ppm/°C; NCM: 8533.21.20; Supplier 1: Mouser; Supplier Part Number 1: 667-ERJ-6ENF6042V; Stock 1: 48520; Pricing 1: 1=0.1, 10=0.072, 100=0.028, 1000=0.02, 5000=0.018, 10000=0.016 (USD); Mount: Surface Mount; Case/Package: 0805; Case Code (Metric): 2012; Case Code (Imperial): 0805; Contact Plating: Tin; Min Operating Temperature: -55°C; Max Operating Temperature: 155°C; Packaging: Tape and Reel; Tolerance: 1%; Package Quantity: 1; Composition: Thick Film; Number of Terminations: 2; Termination: SMD/SMT; Military Standard: Not; Max Power Dissipation: 125mW; Voltage Rating (DC): 150V; Features: Automotive AEC-Q200; Length: 2mm; Height: 0.028inch; Width: 0.049inch; Depth: 1.25mm; Height - Seated (Max): 0.028inch; Radiation Hardening: No; REACH SVHC: No SVHC; Lead Free: Lead Free; ComponentLink1URL: http://www.farnell.com/datasheets/426256.pdf?src-supplier=Farnell; ComponentLink1Description: http://www.farnell.com/datasheets/426256.pdf?src-supplier=Farnell; ComponentLink2URL: http://www.farnell.com/datasheets/426256.pdf?src-supplier=Element14; ComponentLink2Description: http://www.farnell.com/datasheets/426256.pdf?src-supplier=Element14; ComponentLink3URL: http://www.farnell.com/datasheets/1678782.pdf?src-supplier=Element14; ComponentLink3Description: http://www.farnell.com/datasheets/1678782.pdf?src-supplier=Element14; ComponentLink4URL: http://industrial.panasonic.com/www-data/pdf/AOA0000/AOA0000CE2.pdf?src-supplier=Avnet; ComponentLink4Description: http://industrial.panasonic.com/www-data/pdf/AOA0000/AOA0000CE2.pdf?src-supplier=Avnet; ComponentLink5URL: https://www.alliedelec.com/m/d/623f45ff1957d936ff56d46fd1c28cac.pdf?src-supplier=Allied+Electronics; ComponentLink5Description: https://www.alliedelec.com/m/d/623f45ff1957d936ff56d46fd1c28cac.pdf?src-supplier=Allied+Electronics; Supplier 2: Digi-Key; Supplier Part Number 2: P60.4KCCT-ND; Stock 2: 93748; Pricing 2: 1=0.1, 10=0.072, 100=0.0275, 1000=0.0121, 2500=0.01045 (USD); Manufacturer Part Number: ERJ-6ENF6042V
footprint R0805
pins: 1, 2

## R75k_1%_1/8W_0805
designator R?, comment 75k
RES 75k OHM 1/8W 1% 0805; Partnumber: RMCF0805FT75K0; Manufacturer: Panasonic; Voltage Rating: 150V; Resistance: 75kR; Power Rating: 125mW; Temperature Coefficient: 100ppm/°C; NCM: 8533.21.20; Stock 1: 48520; Pricing 1: 1=0.1, 10=0.072, 100=0.028, 1000=0.02, 5000=0.018, 10000=0.016 (USD); Mount: Surface Mount; Case/Package: 0805; Case Code (Metric): 2012; Case Code (Imperial): 0805; Contact Plating: Tin; Min Operating Temperature: -55°C; Max Operating Temperature: 155°C; Packaging: Tape and Reel; Tolerance: 1%; Package Quantity: 1; Composition: Thick Film; Number of Terminations: 2; Termination: SMD/SMT; Military Standard: Not; Max Power Dissipation: 125mW; Voltage Rating (DC): 150V; Features: Automotive AEC-Q200; Length: 2mm; Height: 0.028inch; Width: 0.049inch; Depth: 1.25mm; Height - Seated (Max): 0.028inch; Radiation Hardening: No; REACH SVHC: No SVHC; Lead Free: Lead Free; Supplier 2: Digi-Key; Stock 2: 93748; Pricing 2: 1=0.1, 10=0.072, 100=0.0275, 1000=0.0121, 2500=0.01045 (USD); Manufacturer Part Number: RMCF0805FT75K0; ComponentLink1Description: Digikey; ComponentLink1URL: https://www.digikey.com/product-detail/en/stackpole-electronics-inc/RMCF0805FT75K0/RMCF0805FT75K0CT-ND/1942483; Supplier Part Number 2: RMCF0805FT75K0CT-ND
footprint R0805
pins: 1, 2

## R93.1K_1%_1/10W_0603
designator R?, comment 93K1
RES 93.1K OHM 1/10W 1% 0603; Partnumber: CRCW060393K1FKEA; Manufacturer: Vishay; Resistance: 93.1kR; Temperature Coefficient: 100ppm/°C; Max Power Dissipation: 100mW; Voltage Rating: 75V; NCM: 8533.21.20; Supplier 1: Mouser; Supplier Part Number 1: 71-CRCW0603-93.1K-E3; Stock 1: 10084; Pricing 1: 1=0.1, 10=0.037, 100=0.034, 500=0.015, 1000=0.006, 2500=0.005 (USD); Mount: Surface Mount; Case/Package: 0603; Number of Pins: 2; Weight: 7.1E-05oz; Case Code (Metric): 1608; Case Code (Imperial): 0603; Contact Plating: Tin; Min Operating Temperature: -55°C; Max Operating Temperature: 155°C; Tolerance: 1%; Packaging: Tape and Reel; Package Quantity: 10; Composition: Thick Film; Number of Terminations: 2; Features: Automotive AEC-Q200; Power Rating: 100mW; Termination: SMD/SMT; Military Standard: Not; Voltage Rating (DC): 75V; Working Voltage: 75V; Length: 1.55mm; Height: 0.45mm; Width: 0.033inch; Depth: 0.85mm; Radiation Hardening: No; Lead Free: Lead Free; REACH SVHC: Unknown; ComponentLink1URL: http://www.farnell.com/datasheets/2046716.pdf?src-supplier=Element14; ComponentLink1Description: http://www.farnell.com/datasheets/2046716.pdf?src-supplier=Element14; ComponentLink2URL: http://www.farnell.com/datasheets/2111203.pdf?src-supplier=Element14; ComponentLink2Description: http://www.farnell.com/datasheets/2111203.pdf?src-supplier=Element14; ComponentLink3URL: https://www.alliedelec.com/m/d/0c934d6939ccefa68dbe0b96d821c8cf.pdf?src-supplier=Allied+Electronics; ComponentLink3Description: https://www.alliedelec.com/m/d/0c934d6939ccefa68dbe0b96d821c8cf.pdf?src-supplier=Allied+Electronics; ComponentLink4URL: http://www.vishay.com/docs/20035/dcrcwe3.pdf?src-supplier=Digi-Key; ComponentLink4Description: http://www.vishay.com/docs/20035/dcrcwe3.pdf?src-supplier=Digi-Key; ComponentLink5URL: http://www.farnell.com/datasheets/1697337.pdf?src-supplier=Element14; ComponentLink5Description: http://www.farnell.com/datasheets/1697337.pdf?src-supplier=Element14; ComponentLink6URL: http://www.mouser.com/ds/2/427/dcrcwe3-109170.pdf?src-supplier=Mouser; ComponentLink6Description: http://www.mouser.com/ds/2/427/dcrcwe3-109170.pdf?src-supplier=Mouser; ComponentLink7URL: http://www.vishay.com/docs/20035/dcrcwe3.pdf?src-supplier=Avnet; ComponentLink7Description: http://www.vishay.com/docs/20035/dcrcwe3.pdf?src-supplier=Avnet; ComponentLink8URL: http://www.vishay.com/docs/20035/dcrcwe3.pdf?src-supplier=Future+Electronics; ComponentLink8Description: http://www.vishay.com/docs/20035/dcrcwe3.pdf?src-supplier=Future+Electronics; Supplier 2: Digi-Key; Supplier Part Number 2: 541-93.1KHCT-ND; Stock 2: 12334; Pricing 2: 1=0.1, 10=0.034, 100=0.0139, 1000=0.00623, 2500=0.0054 (USD); Manufacturer Part Number: CRCW060393K1FKEA
footprint R0603
pins: 1, 2

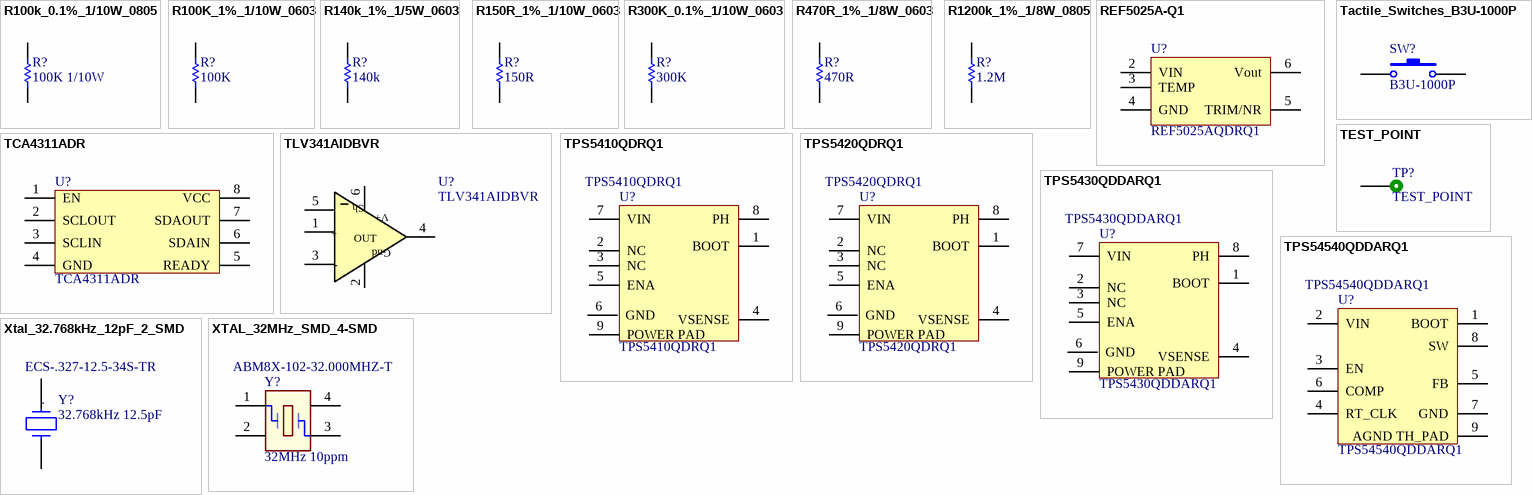
[diagram p2: symbols R100k_0.1%_1/10W_0805 to XTAL_32MHz_SMD_4-SMD]

## R100k_0.1%_1/10W_0805
designator R?, comment 100K 1/10W
RES 100K OHM 1/10W 0.1% 0805; Partnumber: CPF-A-0805B100KE; Manufacturer: TE Connectivity; Resistance: 100kR; Temperature Coefficient: 25ppm/°C; Max Power Dissipation: 100mW; NCM: 8533.21.20; Supplier 1: Digi-Key; Supplier Part Number 1: 1712-CPF-A-0805B100KECT-ND; Stock 1: 2170; Pricing 1: 1=0.57, 10=0.405, 100=0.2107, 1000=0.11343, 2500=0.11019 (USD); Case/Package: 0805; Case Code (Imperial): 0805; Case Code (Metric): 2012; Min Operating Temperature: -55°C; Max Operating Temperature: 155°C; Composition: Thin Film; Packaging: Tape and Reel; Tolerance: 0.1%; Number of Terminations: 2; Features: Moisture Resistant,Automotive AEC-Q200,Anti-Sulfur; ComponentLink1URL: https://www.te.com/commerce/DocumentDelivery/DDEController?Action=srchrtrv&amp;DocNm=1773200-1&amp;DocType=DS&amp;DocLang=English&src-supplier=Digi-Key; ComponentLink1Description: https://www.te.com/commerce/DocumentDelivery/DDEController?Action=srchrtrv&amp;DocNm=1773200-1&amp;DocType=DS&amp;DocLang=English&src-supplier=Digi-Key; Manufacturer Part Number: CPF-A-0805B100KE
footprint R0805
pins: 1, 2

## R100K_1%_1/10W_0603
designator R?, comment 100K
RES 100K OHM 1/10W 1% 0603; Partnumber: CRCW0603100KFKEA; Manufacturer: Vishay; Manufacturer Part Number: CRCW0603-100KFKEA; Resistance: 100kR; Temperature Coefficient: 100ppm/°C; Power Rating: 100mW; Voltage Rating: 75V; NCM: 8533.21.20; Supplier 1: Mouser; Supplier Part Number 1: 71-CRCW0603-100K-E3; Stock 1: 53; Pricing 1: 1=0.1, 10=0.037, 100=0.015, 500=0.006, 1000=0.004, 5000=0.004 (USD); Case/Package: 0603; Number of Pins: 2; Weight: 7.1E-05oz; Contact Plating: Tin,Lead; Case Code (Metric): 1608; Case Code (Imperial): 0603; Min Operating Temperature: -55°C; Max Operating Temperature: 155°C; Tolerance: 1%; Composition: Thick Film; Termination: SMD/SMT; Packaging: Tape and Reel; Package Quantity: 10; Number of Terminations: 2; Military Standard: Not; Max Power Dissipation: 100mW; Voltage Rating (DC): 75V; Features: Automotive AEC-Q200; Length: 1.55mm; Height: 0.45mm; Width: 0.033inch; Depth: 0.85mm; Radiation Hardening: No; Lead Free: Lead Free; REACH SVHC: Unknown; ComponentLink1URL: http://www.vishay.com/docs/20035/dcrcwe3.pdf?src-supplier=Digi-Key; ComponentLink1Description: http://www.vishay.com/docs/20035/dcrcwe3.pdf?src-supplier=Digi-Key; ComponentLink2URL: http://www.farnell.com/datasheets/2310790.pdf?src-supplier=Element14; ComponentLink2Description: http://www.farnell.com/datasheets/2310790.pdf?src-supplier=Element14; ComponentLink3URL: https://www.verical.com/server-webapp/html/getDatasheet?partID=93113&src-supplier=Verical; ComponentLink3Description: https://www.verical.com/server-webapp/html/getDatasheet?partID=93113&src-supplier=Verical; ComponentLink4URL: http://www.farnell.com/datasheets/2045673.pdf?src-supplier=Element14; ComponentLink4Description: http://www.farnell.com/datasheets/2045673.pdf?src-supplier=Element14; ComponentLink5URL: http://www.farnell.com/datasheets/2310790.pdf?src-supplier=Avnet; ComponentLink5Description: http://www.farnell.com/datasheets/2310790.pdf?src-supplier=Avnet; ComponentLink6URL: http://www.farnell.com/datasheets/2310790.pdf?src-supplier=Allied+Electronics; ComponentLink6Description: http://www.farnell.com/datasheets/2310790.pdf?src-supplier=Allied+Electronics; ComponentLink7URL: http://www.vishay.com/docs/20035/dcrcwe3.pdf?src-supplier=Avnet; ComponentLink7Description: http://www.vishay.com/docs/20035/dcrcwe3.pdf?src-supplier=Avnet; ComponentLink8URL: http://www.farnell.com/datasheets/2310790.pdf?src-supplier=Mouser; ComponentLink8Description: http://www.farnell.com/datasheets/2310790.pdf?src-supplier=Mouser; ComponentLink9URL: http://uk.rs-online.com/webdocs/0d98/0900766b80d98afc.pdf?src-supplier=RSComponents; ComponentLink9Description: http://uk.rs-online.com/webdocs/0d98/0900766b80d98afc.pdf?src-supplier=RSComponents; ComponentLink10URL: http://www.farnell.com/datasheets/2310790.pdf?src-supplier=Distrelec; ComponentLink10Description: http://www.farnell.com/datasheets/2310790.pdf?src-supplier=Distrelec; ComponentLink11URL: http://www.vishay.com/docs/20008/dcrcw.pdf?src-supplier=Avnet+Europe; ComponentLink11Description: http://www.vishay.com/docs/20008/dcrcw.pdf?src-supplier=Avnet+Europe; Supplier 2: Digi-Key; Supplier Part Number 2: 541-100KHCT-ND; Stock 2: 34451; Pricing 2: 1=0.1, 10=0.034, 100=0.0139, 1000=0.00623, 2500=0.0054 (USD)
footprint R0603
pins: 1, 2